# Altium schematic symbol library loom-side-panel-left.SchLib: 4 symbols
Pins are listed as number, name and electrical type; pins without a type are passive.

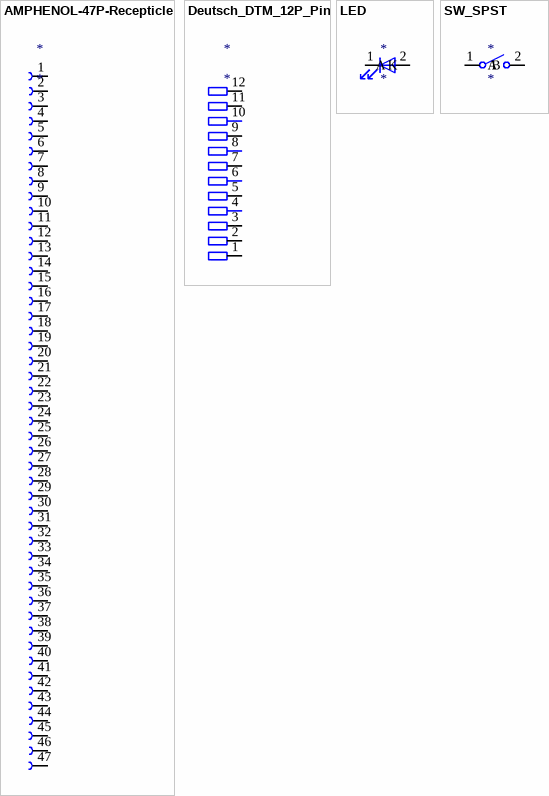
[diagram p0: symbols AMPHENOL-47P-Recepticle to SW_SPST]

## AMPHENOL-47P-Recepticle
designator *
pins: 1, 2, 3, 4, 5, 6, 7, 8, 9, 10, 11, 12, 13, 14, 15, 16, 17, 18, 19, 20, 21, 22, 23, 24, 25, 26, 27, 28, 29, 30, 31, 32, 33, 34, 35, 36, 37, 38, 39, 40, 41, 42, 43, 44, 45, 46, 47

## Deutsch_DTM_12P_Pin
designator *
pins: 1, 2, 3, 4, 5, 6, 7, 8, 9, 10, 11, 12

## LED
designator *
pins: 1 K, 2 A

## SW_SPST
designator *
pins: 1 A, 2 B